# Altium footprint library SL_Other.PcbLib: 72 footprints (part 4 of 5)
Each footprint in its own frame and in the unit in brackets; x right, y up, seen from the top. Pads: shape width x height; smd on the part's side, far side on the other; paste and mask are expansions set on the pad; w line width, h text height; cw(c..) or ccw(c..) is an arc to the next point about the centre after c.
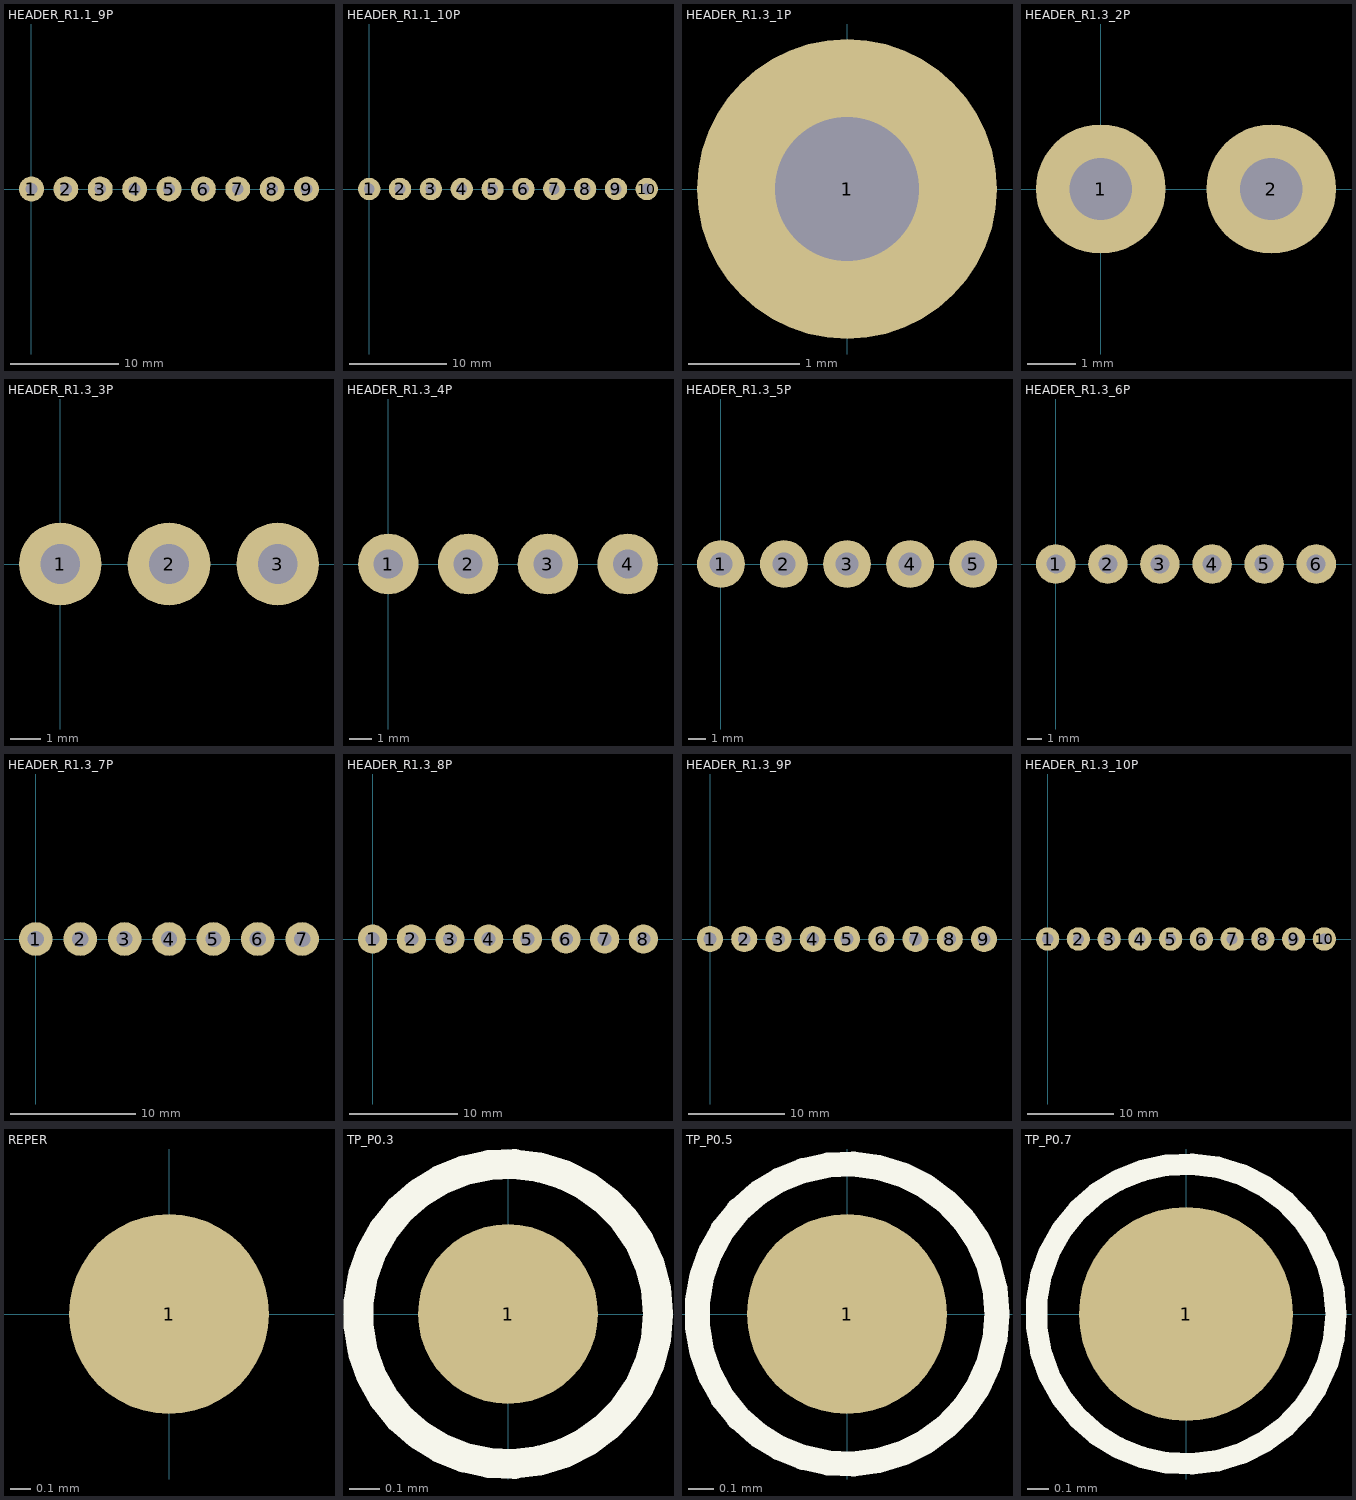
[diagram p3: the footprints below, top view; thin cyan lines are the x and y axes]

## HEADER_R1.1_9P [mm]
pads (9):
  round 2.3 hole 1.1: 1(0,0) 2(3.175,0) 3(6.35,0) 4(9.525,0) 5(12.7,0) 6(15.875,0) 7(19.05,0) 8(22.225,0) 9(25.4,0)

## HEADER_R1.1_10P [mm]
pads (10):
  round 2.3 hole 1.1: 1(0,0) 2(3.175,0) 3(6.35,0) 4(9.525,0) 5(12.7,0) 6(15.875,0) 7(19.05,0) 8(22.225,0) 9(25.4,0) 10(28.575,0)

## HEADER_R1.3_1P [mm]
pads (1):
  round 2.7 hole 1.3: 1(0,0)

## HEADER_R1.3_2P [mm]
pads (2):
  round 2.7 hole 1.3: 1(0,0) 2(3.556,0)

## HEADER_R1.3_3P [mm]
pads (3):
  round 2.7 hole 1.3: 1(0,0) 2(3.556,0) 3(7.112,0)

## HEADER_R1.3_4P [mm]
pads (4):
  round 2.7 hole 1.3: 1(0,0) 2(3.556,0) 3(7.112,0) 4(10.668,0)

## HEADER_R1.3_5P [mm]
pads (5):
  round 2.7 hole 1.3: 1(0,0) 2(3.556,0) 3(7.112,0) 4(10.668,0) 5(14.224,0)

## HEADER_R1.3_6P [mm]
pads (6):
  round 2.7 hole 1.3: 1(0,0) 2(3.556,0) 3(7.112,0) 4(10.668,0) 5(14.224,0) 6(17.78,0)

## HEADER_R1.3_7P [mm]
pads (7):
  round 2.7 hole 1.3: 1(0,0) 2(3.556,0) 3(7.112,0) 4(10.668,0) 5(14.224,0) 6(17.78,0) 7(21.336,0)

## HEADER_R1.3_8P [mm]
pads (8):
  round 2.7 hole 1.3: 1(0,0) 2(3.556,0) 3(7.112,0) 4(10.668,0) 5(14.224,0) 6(17.78,0) 7(21.336,0) 8(24.892,0)

## HEADER_R1.3_9P [mm]
pads (9):
  round 2.7 hole 1.3: 1(0,0) 2(3.556,0) 3(7.112,0) 4(10.668,0) 5(14.224,0) 6(17.78,0) 7(21.336,0) 8(24.892,0) 9(28.448,0)

## HEADER_R1.3_10P [mm]
pads (10):
  round 2.7 hole 1.3: 1(0,0) 2(3.556,0) 3(7.112,0) 4(10.668,0) 5(14.224,0) 6(17.78,0) 7(21.336,0) 8(24.892,0) 9(28.448,0) 10(32.004,0)

## REPER [mm] "Reper Dot"
pads (1):
  round 1 all layers, no hole paste-2539.97 mask+1: 1(0,0)
Top Paste:
  circle w1.5: c0,0 r0.75
Bottom Paste:
  circle w1.5: c0,0 r0.75

## TP_P0.3 [mm]
pads (1):
  round 0.6 / inner round 0.6 / far side round 0 all layers, no hole: 1(0,0)
Top Overlay:
  circle w0.1: c0,0 r0.5

## TP_P0.5 [mm]
pads (1):
  round 0.8 / inner round 0.8 / far side oval 0x0.8 all layers, no hole: 1(0,0)
Top Overlay:
  circle w0.1: c0,0 r0.6

## TP_P0.7 [mm]
pads (1):
  round 1 / inner round 1 / far side round 0 all layers, no hole: 1(0,0)
Top Overlay:
  circle w0.1: c0,0 r0.7